# EAGLE library part MPX- (library MMC Eagle)
Generic MPX pressure sensor
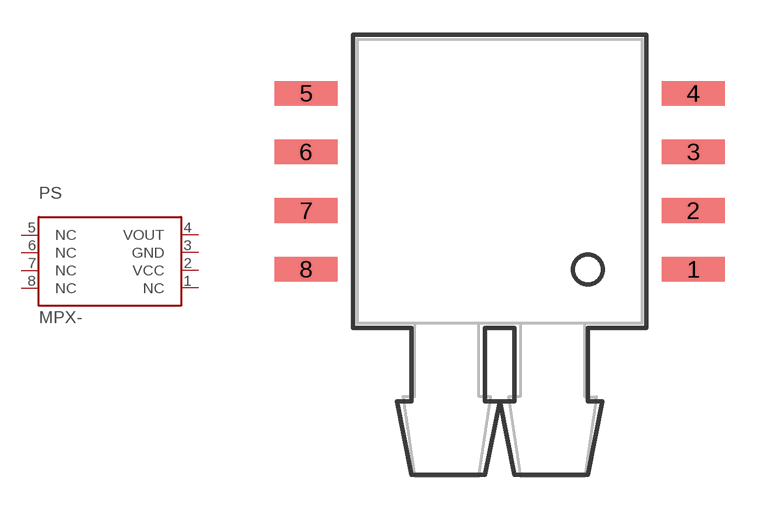
[diagram p12: symbol with the pads of MXP_SOP8; footprint MXP_SOP8]

Designator prefix PS

## MPX-  [MXP_SOP8]
1  NC  nc
2  VCC  pwr
3  GND  sup
4  VOUT  out
5  NC  nc
6  NC  nc
7  NC  nc
8  NC  nc

## Footprint MXP_SOP8 (pad centres in mm)
Description: SOP8 Package 0.1" pitch. Used with MPXV7002 differential pressure sensor - dual port.
smd 2.731 x 1.067: 1 8.382,-3.81; 2 8.382,-1.27; 3 8.382,1.27; 4 8.382,3.81; 5 -8.382,3.81; 6 -8.382,1.27; 7 -8.382,-1.27; 8 -8.382,-3.81